# Altium footprint library TS1A.PcbLib: 31 footprints (part 2 of 2)
Each footprint in its own frame and in the unit in brackets; x right, y up, seen from the top. Pads: shape width x height; smd on the part's side, far side on the other; paste and mask are expansions set on the pad; w line width, h text height; cw(c..) or ccw(c..) is an arc to the next point about the centre after c.
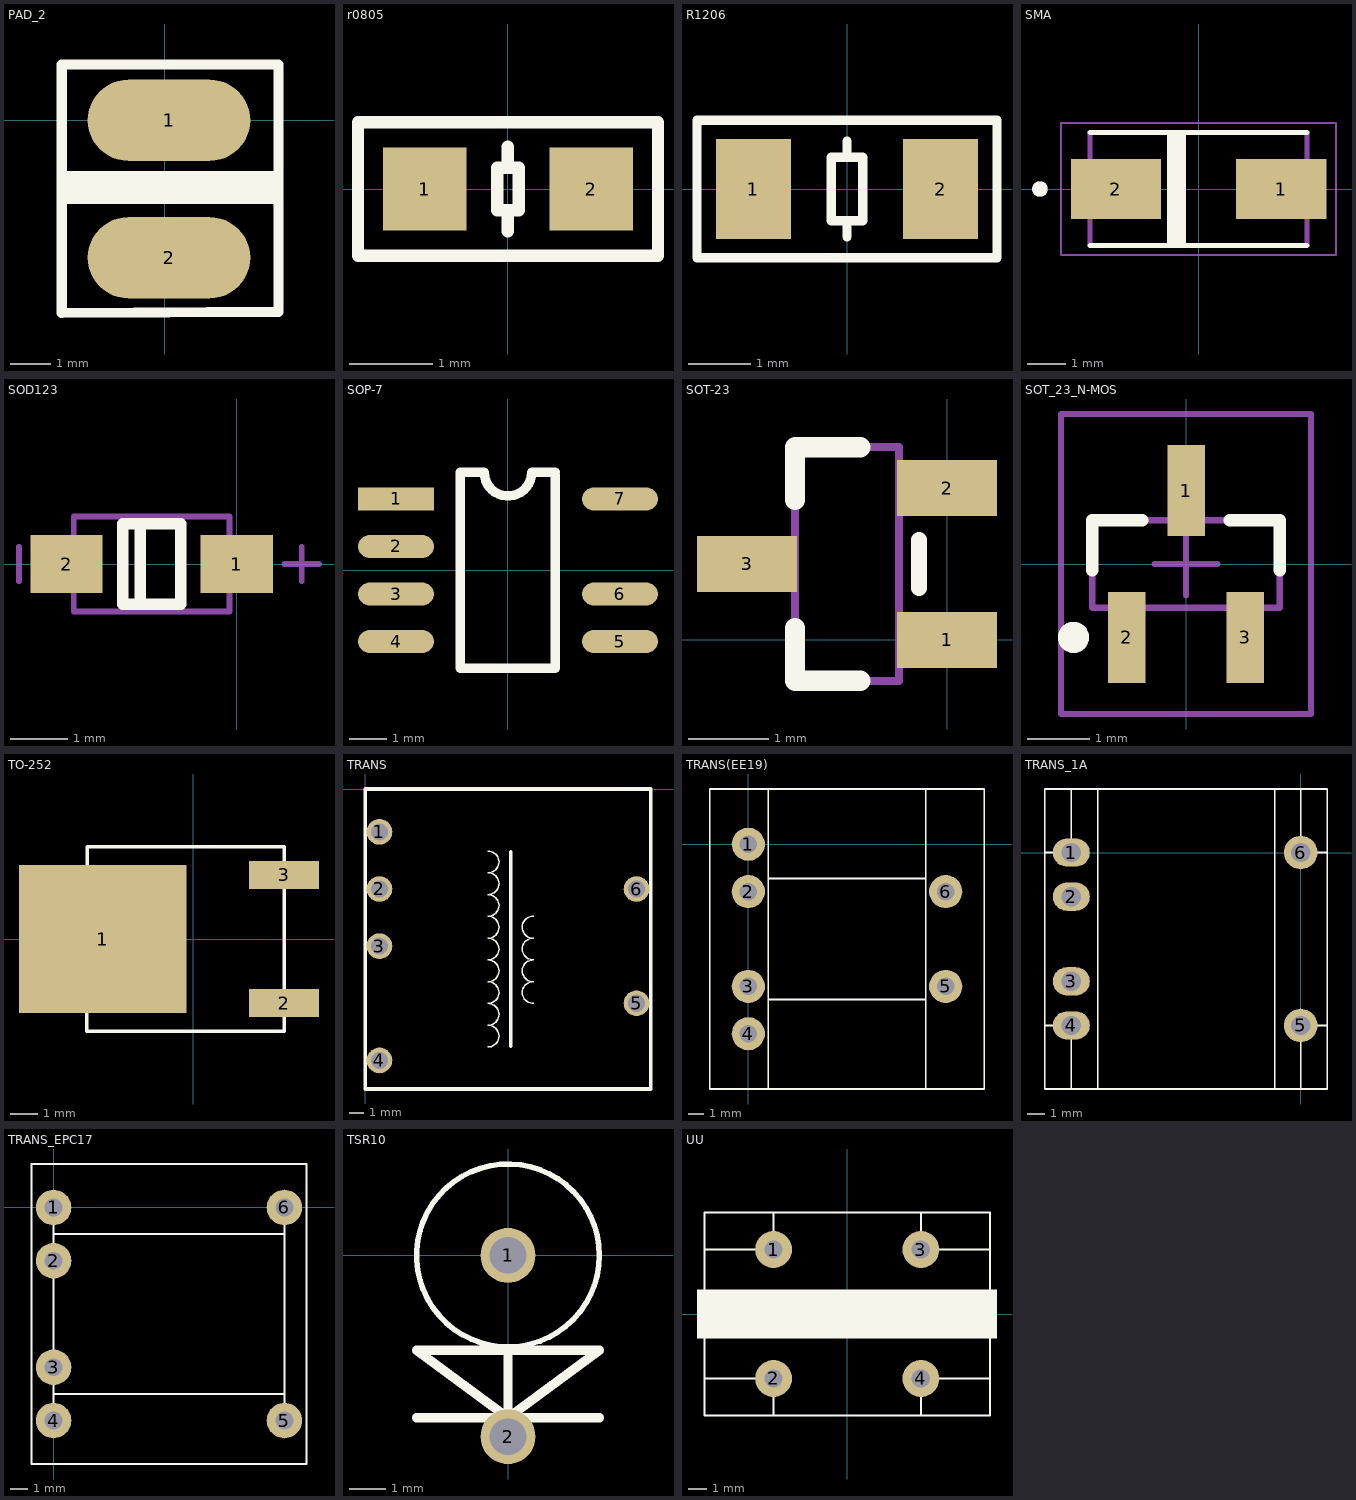
[diagram p1: the footprints below, top view; thin cyan lines are the x and y axes]

## PAD_2 [mm]
pads (2):
  oval 4x2 smd: 1(0.102,0) 2(0.102,-3.378)
Top Overlay:
  rectangle: -2.591,-2.057 2.794,-1.245
  lines w0.254: -2.54,-4.737 -2.54,0.356 -2.54,1.372 1.626,1.372 2.794,1.372 2.794,-4.711 -2.54,-4.737

## r0805 [mm]
pads (2):
  rect 1x1 smd: 1(-1,0) 2(1,0)
Top Overlay:
  lines w0.15: 0,-0.508 0,-0.316 ; 0,0.316 0,0.508 ; -1.8,-0.8 -1.8,0.8 1.8,0.8 1.8,-0.8 -1.8,-0.8 ; -0.127,-0.254 -0.127,0.254 0.127,0.254 0.127,-0.254 -0.127,-0.254

## R1206 [mm]
pads (2):
  rect 1.2x1.6 smd: 1(-1.5,0) 2(1.5,0)
Top Overlay:
  lines w0.15: 0,-0.762 0,-0.508 ; 0,0.508 0,0.762 ; -2.4,-1.1 -2.4,1.1 2.4,1.1 2.4,-1.1 -2.4,-1.1 ; -0.254,-0.508 0.254,-0.508 0.254,0.508 -0.254,0.508 -0.254,-0.508

## SMA [mm]
pads (2):
  rect 2.33x1.55 smd: 1(2.135,0) 2(-2.135,0)
Top Overlay:
  circle w0.2: c-4.1,0 r0.1
  rectangle: -0.813,-1.499 -0.33,1.448
  lines w0.1: 0.483,1.448 0.762,1.448
  lines w0.127: -2.8,-1.46 2.8,-1.46 ; -2.8,1.46 2.8,1.46
Mechanical 13:
  circle w0.2: c-4.1,0 r0.1
  circle w0.2: c-4.1,0 r0.1
  lines w0.127: -2.8,-1.46 -2.8,1.46 ; -2.8,-1.46 2.8,-1.46 ; -2.8,-1.46 -2.8,1.46 ; -2.8,-1.46 2.8,-1.46 ; -2.8,1.46 2.8,1.46 ; -2.8,1.46 2.8,1.46 ; 2.8,-1.46 2.8,1.46 ; 2.8,-1.46 2.8,1.46
Mechanical 15:
  lines w0.05: -3.55,-1.71 -3.55,1.71 3.55,1.71 3.55,-1.71 -3.55,-1.71

## SOD123 [mm]
pads (2):
  rect 1.25x1 smd: 1(0,0) 2(-2.95,0)
Top Overlay:
  lines w0.2: -1.675,-0.7 -1.675,0.7 ; -1.975,-0.7 -0.975,-0.7 -0.975,0.7 -1.975,0.7 -1.975,-0.7
Mechanical 13:
  lines w0.1: -2.825,-0.825 -2.825,0.825 -0.125,0.825 -0.125,-0.825 -2.825,-0.825
Mechanical 15:
  lines w0.1: -3.775,-0.3 -3.775,0.3 ; 0.825,0 1.425,0 ; 1.125,-0.3 1.125,0.3
3D body "SOD123F.STEP": height 1.2, standoff -0.01, extent -3.375,-0.849 0.375,0.85

## SOP-7 [mil]
pads (7):
  rect 80x24 smd: 1(-117.87,75)
  oval 80x24 smd: 2(-117.87,25) 3(-117.87,-25) 4(-117.87,-75) 5(117.87,-75) 6(117.87,-25) 7(117.87,75)
Top Overlay:
  lines w10: 49.98,100 49.98,-103.14 -50.02,-103.14 -50.02,103.16 -25.02,103.16 ccw(c-0.02,103.16) 24.98,103.16 49.98,103.16
3D body "SO-8.STEP": height 66.93, standoff 0, extent -118.12,-96.46 118.1,96.46

## SOT-23 [mm]
pads (3):
  rect 1.25x0.7 smd: 1(0,0) 2(0,1.9) 3(-2.5,0.95)
Top Overlay:
  lines w0.2: -0.35,0.65 -0.35,1.25
  lines w0.254: -1.9,0.15 -1.9,-0.51 -1.085,-0.51 ; -1.085,2.41 -1.9,2.41 ; -1.9,1.75 -1.9,2.41 ; -1.9,1.75 -1.9,2.41 ; -1.9,1.75 -1.9,2.41
Mechanical 13:
  lines w0.1: -1.9,-0.51 -1.9,2.41 ; -1.9,-0.51 -0.6,-0.51 ; -1.9,-0.51 -0.6,-0.51 ; -1.9,-0.51 -1.9,2.41 ; -1.9,-0.51 -0.6,-0.51 ; -1.9,-0.51 -1.9,2.41 ; -1.9,2.41 -0.6,2.41 ; -1.9,2.41 -0.6,2.41 ; -1.9,2.41 -0.6,2.41 ; -0.6,-0.51 -0.6,2.41 ; -0.6,-0.51 -0.6,2.41 ; -0.6,-0.51 -0.6,2.41
3D body "SOT-23.step": height 1.3, standoff 0, extent -2.75,-0.55 0.25,2.45

## SOT_23_N-MOS [mm]
pads (3):
  rect 0.6x1.45 smd: 1(0,1.175) 2(-0.95,-1.175) 3(0.95,-1.175)
Top Overlay:
  circle w0.25: c-1.8,-1.175 r0.125
  lines w0.2: -1.5,-0.1 -1.5,0.7 -0.7,0.7 ; 0.7,0.7 1.5,0.7 1.5,-0.1
Mechanical 13:
  lines w0.1: -1.5,-0.7 1.5,-0.7 1.5,0.7 -1.5,0.7 -1.5,-0.7
Mechanical 15:
  lines w0.1: -0.5,0 0.5,0 ; 0,-0.5 0,0.5 ; -2,-2.4 2,-2.4 2,2.4 -2,2.4 -2,-2.4
3D body: height 1.1, standoff 0, extent -1.5,-0.7 1.5,0.7

## TO-252 [mm]
pads (3):
  rect 6x5.3 smd: 1(-3.25,0)
  rect 2.5x1 smd: 2(3.25,-2.3) 3(3.25,2.3)
Top Overlay:
  lines w0.125: -3.82,-2.67 -3.82,-3.3 -3.11,-3.3 ; -3.81,2.68 -3.81,3.3 -2.39,3.3 ; -3.29,-3.3 3.22,-3.3 ; -3.29,3.3 3.23,3.3 ; 3.25,-3.3 3.25,3.3

## TRANS [mm]
pads (6):
  round 1.8 hole 1.2: 1(1,-3) 2(1,-7) 3(1,-11) 4(1,-19) 5(19,-15) 6(19,-7)
Top Overlay:
  lines w0.1: 8.585,-18.059 ccw(c8.598,-17.285) 9.373,-17.297 ccw(c8.598,-17.31) 8.585,-16.535 ccw(c8.598,-15.761) 9.373,-15.773 ccw(c8.598,-15.786) 8.585,-15.011 ccw(c8.598,-14.237) 9.373,-14.249 ccw(c8.598,-14.262) 8.585,-13.487 ccw(c8.598,-12.713) 9.373,-12.725 ccw(c8.598,-12.738) 8.585,-11.963 ccw(c8.598,-11.189) 9.373,-11.201 ccw(c8.598,-11.214) 8.585,-10.439 ccw(c8.598,-9.665) 9.373,-9.677 ccw(c8.598,-9.69) 8.585,-8.915 ccw(c8.598,-8.141) 9.373,-8.153 ccw(c8.598,-8.166) 8.585,-7.391 ccw(c8.598,-6.617) 9.373,-6.629 ccw(c8.598,-6.642) 8.585,-5.867 ccw(c8.598,-5.093) 9.373,-5.105 ccw(c8.598,-5.118) 8.585,-4.343 ; 11.786,-15.011 cw(c11.773,-14.237) 10.998,-14.249 cw(c11.773,-14.262) 11.786,-13.487 cw(c11.773,-12.713) 10.998,-12.725 cw(c11.773,-12.738) 11.786,-11.963 cw(c11.773,-11.189) 10.998,-11.201 cw(c11.773,-11.214) 11.786,-10.439 cw(c11.773,-9.665) 10.998,-9.677 cw(c11.773,-9.69) 11.786,-8.915
  lines w0.254: 10.185,-18.009 10.185,-4.394 ; 0,-21 0,0 20,0 20,-21 0,-21

## TRANS(EE19) [mm]
pads (6):
  round 2.1 hole 1.1: 1(0,0) 2(0,-3) 3(0,-9) 4(0,-12) 5(12.5,-9) 6(12.5,-3)
Top Overlay:
  lines w0.1: 0,0 0.432,0 ; 1.27,-15.5 1.27,3.5 1.422,3.5 ; 1.27,-9.83 11.227,-9.83 ; 1.27,-2.17 11.227,-2.17 ; 11.23,-15.5 11.23,3.5 ; -2.45,-15.5 -2.45,3.5 0,3.5 14.95,3.5 14.95,-15.5 -2.45,-15.5

## TRANS_1A [mm]
pads (6):
  oval 2.1x1.6 hole 1.1: 1(-13,0) 2(-13,-2.5) 3(-13,-7.3) 4(-13,-9.8)
  round 1.9 hole 1.1: 5(0,-9.8) 6(0,0)
Top Overlay:
  lines w0.1: -11.506,-13.386 -11.506,3.6 -10.947,3.6 ; -1.575,3.6 -1.473,3.6 -1.473,-13.4 ; -14.5,-9.8 -14.5,-13.4 -13,-13.4 ; -14.5,-9.8 -14.5,0 ; -14.5,-9.8 -13,-9.8 -13,-13.4 ; -14.5,0 -14.5,3.6 -13,3.6 ; -14.5,0 -13,0 -13,3.6 ; -13,-13.4 0,-13.4 ; -13,3.6 0,3.6 ; 0,-13.4 1.5,-13.4 1.5,-9.8 ; 0,-13.4 0,-9.8 1.5,-9.8 ; 0,3.6 1.5,3.6 1.5,0 ; 0,3.6 0,0 1.5,0 ; 1.5,-9.8 1.5,0

## TRANS_EPC17 [mm]
pads (6):
  round 2 hole 1: 1(0,0) 2(0,-3) 3(0,-9) 4(0,-12) 5(13,-12) 6(13,0)
Top Overlay:
  lines w0.1: 0,-12 0,-9 ; 0,-1.5 13,-1.5 ; 0,0 0,-3 0,-10.5 13,-10.5 ; 13,-12 13,-10.5 ; 13,0 13,-1.5 ; 13,-10.5 13,-1.5 ; -1.25,-14.45 13,-14.45 14.25,-14.45 14.25,2.45 -1.25,2.45 -1.25,0 -1.25,-14.45

## TSR10 [mm]
pads (2):
  round 1.5 hole 1: 1(0,0) 2(0,-4.953)
Top Overlay:
  circle w0.15: c0,0 r2.5
  lines w0.254: -2.5,-4.438 -0.152,-4.438 0.652,-4.438 ; 2.5,-4.438 0,-4.438 ; 0,-4.438 -2.5,-2.591 0,-2.591 ; 0,-4.438 2.5,-2.591 0,-2.591 ; 0,-4.438 0,-2.591

## UU [mm] "UU"
pads (4):
  round 2 hole 1: 1(-4,3.5) 2(-4,-3.5) 3(4,3.5) 4(4,-3.5)
Top Overlay:
  rectangle: -8.153,-1.321 8.128,0.102
  rectangle: -8.153,-0.102 8.128,1.321
  lines w0.1: -7.75,-3.5 -7.75,3.5 ; -7.75,-3.5 -7.75,-5.5 -4,-5.5 ; -7.75,-3.5 -4,-3.5 -4,-5.5 ; -7.75,3.5 -7.75,5.5 -4,5.5 ; -7.75,3.5 -4,3.5 -4,5.5 ; -4,-5.5 4,-5.5 ; -4,5.5 4,5.5 ; 4,-5.5 7.75,-5.5 7.75,-3.5 ; 4,-5.5 4,-3.5 7.75,-3.5 ; 4,5.5 7.75,5.5 7.75,3.5 ; 4,5.5 4,3.5 7.75,3.5 ; 7.75,-3.5 7.75,3.5